# Altium footprint library Generic-Footprint-Library.PcbLib: 47 footprints (part 3 of 3)
Each footprint in its own frame and in the unit in brackets; x right, y up, seen from the top. Pads: shape width x height; smd on the part's side, far side on the other; paste and mask are expansions set on the pad; w line width, h text height; cw(c..) or ccw(c..) is an arc to the next point about the centre after c.
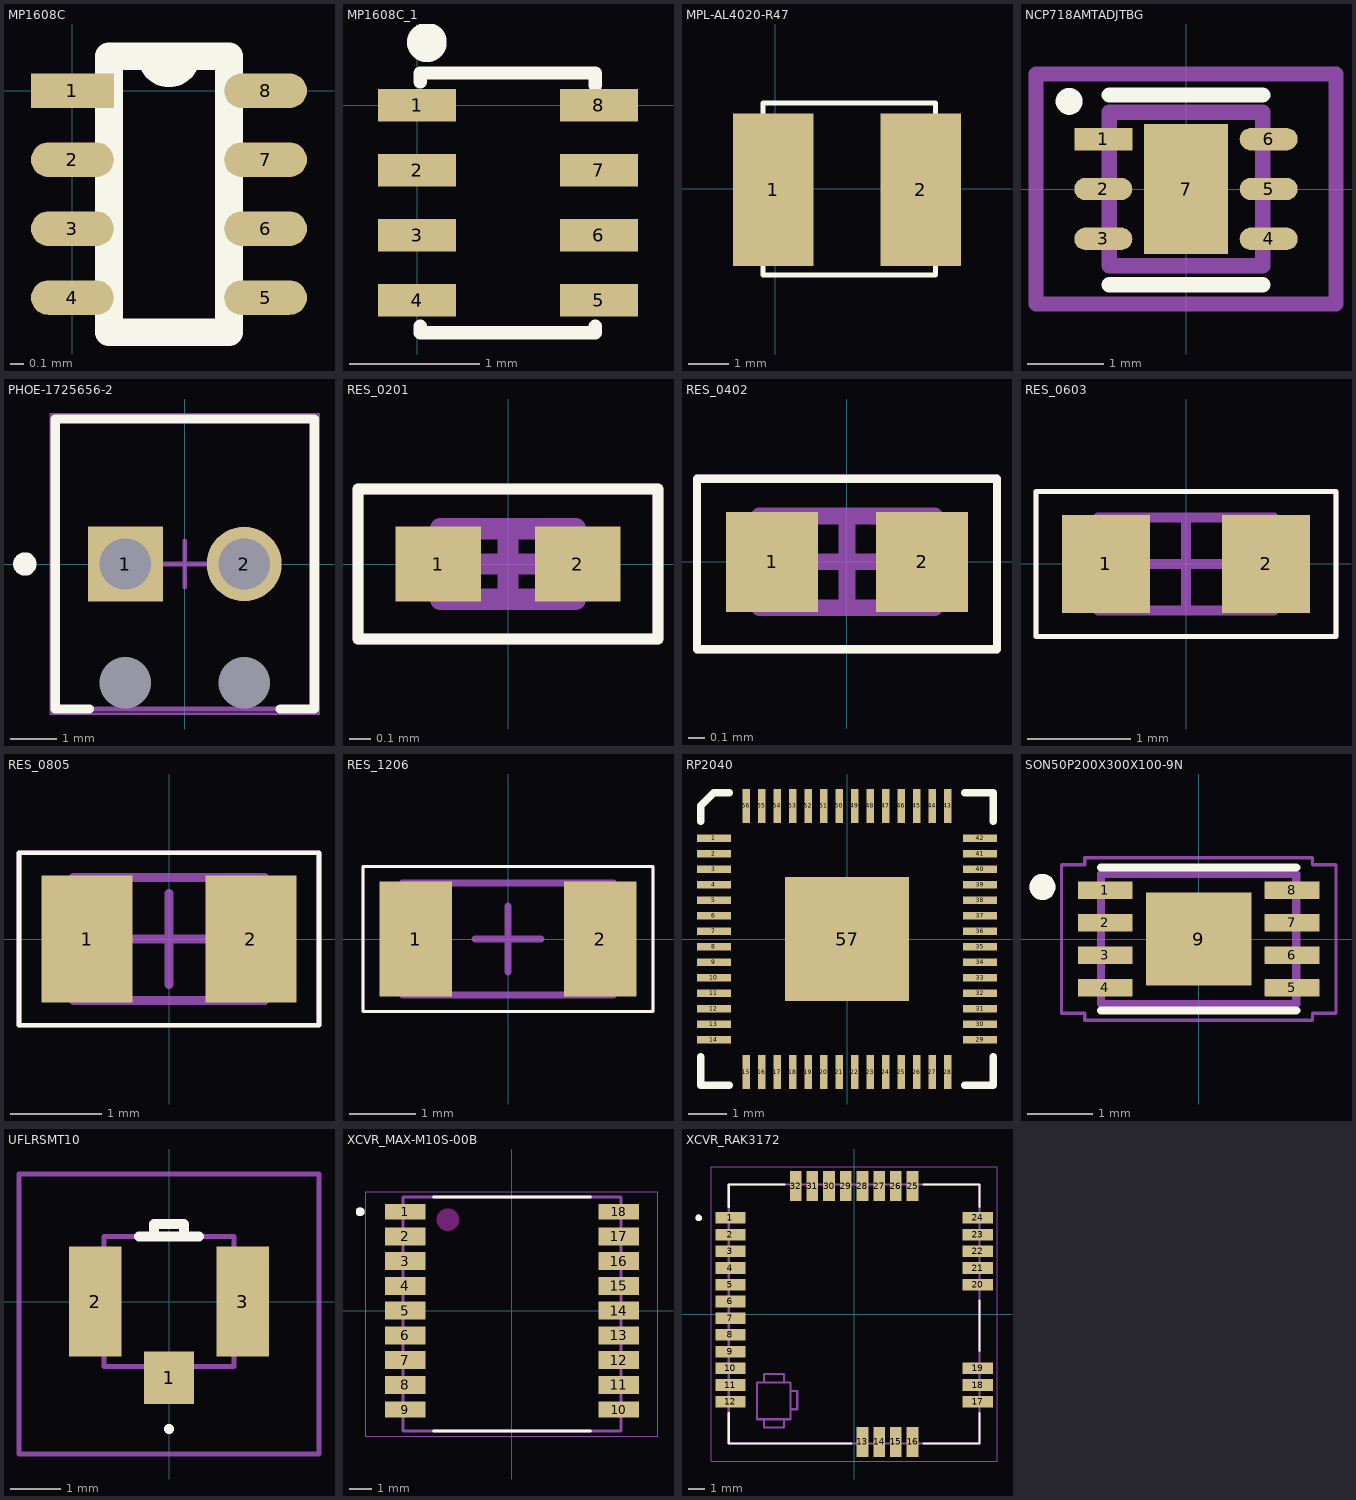
[diagram p2: the footprints below, top view; thin cyan lines are the x and y axes]

## MP1608C [mm]
pads (8):
  rect 0.6x0.25 smd: 1(0,0)
  oval 0.6x0.25 smd: 2(0,-0.5) 3(0,-1) 4(0,-1.5) 5(1.4,-1.5) 6(1.4,-1) 7(1.4,-0.5) 8(1.4,0)
Top Overlay:
  lines w0.2: 0.265,-1.75 0.265,0.25 0.825,0.25 cw(c0.7,0.25) 0.575,0.25 1.135,0.25 1.135,-1.75 0.265,-1.75

## MP1608C_1 [mm]
pads (8):
  rect 0.6x0.25 smd mask+0.051: 1(0,0) 2(0,-0.5) 3(0,-1) 4(0,-1.5) 5(1.4,-1.5) 6(1.4,-1) 7(1.4,-0.5) 8(1.4,0)
Top Overlay:
  circle w0.254: c0.076,0.483 r0.025
  lines w0.102: 0.025,-1.702 0.025,-1.753 1.372,-1.753 1.372,-1.702 ; 0.025,0.178 0.025,0.247 1.372,0.247 1.372,0.152

## MPL-AL4020-R47 [mm]
pads (2):
  rect 2x3.8 smd mask+0.051: 1(-0.051,-0.025) 2(3.632,-0.025)
Top Overlay:
  lines w0.127: -0.305,-2.159 3.995,-2.159 3.995,2.141 -0.305,2.141 -0.305,-2.159

## NCP718AMTADJTBG [mm]
pads (7):
  rect 0.756x0.292 smd paste+0 mask+0: 1(-1.078,0.65)
  rrect100% 0.756x0.292 smd paste+0 mask+0: 2(-1.078,0) 3(-1.078,-0.65) 4(1.078,-0.65) 5(1.078,0) 6(1.078,0.65)
  rect 1.1x1.7 smd paste-1000 mask+0: 7(0,0)
Top Overlay:
  circle w0.25: c-1.524,1.143 r0.05
  lines w0.2: -1,-1.25 1,-1.25 ; -1,1.225 1,1.225
Top Paste:
  rectangle: -0.308,-0.608 0.308,0.608
Top Assembly:
  lines w0.2: -1.956,-1.5 1.956,-1.5 1.956,1.5 -1.956,1.5 -1.956,-1.5 ; -1,-1 -1,1 1,1 1,-1 -1,-1
Top Courtyard:
  lines w0.2: -1.956,-1.5 1.956,-1.5 1.956,1.5 -1.956,1.5 -1.956,-1.5
Top Component Center:
  lines w0.1: -0.5,0 0.5,0 ; 0,-0.5 0,0.5
3D body "IC_onsemi_NCP711BMTADJTBG_eec.STEP": height 0.25, standoff 0, extent -1.956,-1.5 1.956,1.5

## PHOE-1725656-2 [mm] "Connector, 2-Leads, Body 6.2x5.4mm, Pitch 2.54mm"
height 8.5
pads (4):
  rect 1.6x1.6 hole 1.1: 1(-1.27,0)
  round 1.6 hole 1.1: 2(1.27,0)
  round 0 hole 1.1 unplated: MH1(-1.27,-2.54) MH2(1.27,-2.54)
Top Overlay:
  circle w0.25: c-3.42,0 r0.125
  lines w0.2: -2.038,-3.1 -2.77,-3.1 -2.77,3.1 2.77,3.1 2.77,-3.1 2.038,-3.1
Mechanical 13:
  lines w0.1: -2.77,-3.1 -2.77,3.1 2.77,3.1 2.77,-3.1 -2.77,-3.1
Mechanical 15:
  lines w0.05: -2.87,-3.2 2.87,-3.2 2.87,3.2 -2.87,3.2 -2.87,-3.2
  lines w0.1: -0.5,0 0.5,0 ; 0,-0.5 0,0.5
3D body "1725656.stp": height 9, standoff -3, extent -2.77,-3.1 2.77,3.1

## RES_0201 [mm]
height 0.26
pads (2):
  rect 0.4x0.35 smd mask+0.05: 1(-0.325,0) 2(0.325,0)
Top Overlay:
  lines w0.05: -0.7,-0.35 -0.7,0.35 ; -0.7,-0.35 0.7,-0.35 ; -0.7,-0.35 -0.7,0.35 ; -0.7,-0.35 0.7,-0.35 ; -0.7,0.35 0.7,0.35 ; -0.7,0.35 0.7,0.35 ; 0.7,-0.35 0.7,0.35 ; 0.7,-0.35 0.7,0.35
Top Assembly:
  lines w0.1: -0.315,-0.165 -0.315,0.165 0.315,0.165 0.315,-0.165 -0.315,-0.165
Top Courtyard:
  lines w0.05: -0.7,-0.35 -0.7,0.35 ; -0.7,-0.35 0.7,-0.35 ; -0.7,-0.35 0.7,-0.35 ; -0.7,-0.35 -0.7,0.35 ; -0.7,0.35 0.7,0.35 ; -0.7,0.35 0.7,0.35 ; 0.7,-0.35 0.7,0.35 ; 0.7,-0.35 0.7,0.35
Top Component Center:
  lines w0.1: -0.165,0 0.165,0 ; 0,-0.165 0,0.165
3D body "RES_0201_new.step": height 0.26, standoff 0, extent -0.315,-0.165 0.315,0.165

## RES_0402 [mm]
height 0.4
pads (2):
  rect 0.55x0.6 smd mask+0.05: 1(-0.45,0) 2(0.45,0)
Top Overlay:
  lines w0.05: -0.9,-0.525 -0.9,0.5 0.9,0.5 0.9,-0.525 -0.9,-0.525
Top Assembly:
  lines w0.1: -0.525,-0.275 0.525,-0.275 0.525,0.275 -0.525,0.275 -0.525,-0.275
Top Courtyard:
  lines w0.05: -0.9,-0.525 0.9,-0.525 0.9,0.5 -0.9,0.5 -0.9,-0.525
Top Component Center:
  lines w0.1: -0.275,0 0.275,0 ; 0,-0.275 0,0.275
3D body "RES_0402.step": height 0.4, standoff 0, extent -0.525,-0.275 0.525,0.275

## RES_0603 [mm]
height 0.55
pads (2):
  rect 0.85x0.95 smd mask+0.05: 1(-0.775,0) 2(0.775,0)
Top Overlay:
  lines w0.05: -1.45,-0.7 1.45,-0.7 1.45,0.7 -1.45,0.7 -1.45,-0.7
Top Assembly:
  lines w0.1: -0.85,-0.45 0.85,-0.45 0.85,0.45 -0.85,0.45 -0.85,-0.45
Top Courtyard:
  lines w0.05: -1.45,-0.7 1.45,-0.7 1.45,0.7 -1.45,0.7 -1.45,-0.7
Top Component Center:
  lines w0.1: -0.45,0 0.45,0 ; 0,-0.45 0,0.45
3D body "RES_0603.step": height 0.55, standoff 0, extent -0.85,-0.45 0.85,0.45

## RES_0805 [mm]
height 0.6
pads (2):
  rect 1x1.4 smd mask+0.05: 1(-0.9,0) 2(0.9,0)
Top Overlay:
  lines w0.05: -1.65,-0.95 1.65,-0.95 1.65,0.95 -1.65,0.95 -1.65,-0.95
Top Assembly:
  lines w0.1: -1.05,-0.675 1.05,-0.675 1.05,0.675 -1.05,0.675 -1.05,-0.675
Top Courtyard:
  lines w0.05: -1.65,-0.95 1.65,-0.95 1.65,0.95 -1.65,0.95 -1.65,-0.95
Top Component Center:
  lines w0.1: -0.5,0 0.5,0 ; 0,-0.5 0,0.5
3D body "RES_0805.step": height 0.6, standoff 0, extent -1.05,-0.675 1.05,0.675

## RES_1206 [mm]
height 0.65
pads (2):
  rect 1.1x1.75 smd mask+0.05: 1(-1.4,0) 2(1.4,0)
Top Overlay:
  lines w0.05: -2.2,-1.1 -2.2,1.1 2.2,1.1 2.2,-1.1 -2.2,-1.1
Top Assembly:
  lines w0.1: -1.6,-0.85 -1.6,0.85 1.6,0.85 1.6,-0.85 -1.6,-0.85
Top Courtyard:
  lines w0.05: -2.2,-1.1 -2.2,1.1 2.2,1.1 2.2,-1.1 -2.2,-1.1
Top Component Center:
  lines w0.1: -0.5,0 0.5,0 ; 0,-0.5 0,0.5
3D body "RES_1206_FIX.step": height 0.65, standoff 0, extent -1.6,-0.85 1.6,0.85

## RP2040 [mm]
pads (57):
  rect 0.875x0.2 smd mask+0.05: 1(-3.437,2.6) 2(-3.437,2.2) 3(-3.437,1.8) 4(-3.437,1.4) 5(-3.437,1) 6(-3.437,0.6) 7(-3.437,0.2) 8(-3.437,-0.2) 9(-3.437,-0.6) 10(-3.437,-1) 11(-3.437,-1.4) 12(-3.437,-1.8) 13(-3.437,-2.2) 14(-3.437,-2.6) 29(3.437,-2.6) 30(3.437,-2.2) 31(3.437,-1.8) 32(3.437,-1.4) 33(3.437,-1) 34(3.437,-0.6) 35(3.437,-0.2) 36(3.437,0.2) 37(3.437,0.6) 38(3.437,1) 39(3.437,1.4) 40(3.437,1.8) 41(3.437,2.2) 42(3.437,2.6)
  rect 0.2x0.875 smd mask+0.05: 15(-2.6,-3.437) 16(-2.2,-3.437) 17(-1.8,-3.437) 18(-1.4,-3.437) 19(-1,-3.437) 20(-0.6,-3.437) 21(-0.2,-3.437) 22(0.2,-3.437) 23(0.6,-3.437) 24(1,-3.437) 25(1.4,-3.437) 26(1.8,-3.437) 27(2.2,-3.437) 28(2.6,-3.437) 43(2.6,3.437) 44(2.2,3.437) 45(1.8,3.437) 46(1.4,3.437) 47(1,3.437) 48(0.6,3.437) 49(0.2,3.437) 50(-0.2,3.437) 51(-0.6,3.437) 52(-1,3.437) 53(-1.4,3.437) 54(-1.8,3.437) 55(-2.2,3.437) 56(-2.6,3.437)
  rect 3.2x3.2 smd mask+0.05: 57(0,0)
Top Overlay:
  lines w0.2: -3.775,-3.048 -3.775,-3.775 -3.048,-3.775 ; -3.775,3.048 -3.775,3.437 -3.437,3.775 ; -3.437,3.775 -3.048,3.775 ; 3.048,-3.775 3.775,-3.775 3.775,-3.048 ; 3.048,3.775 3.775,3.775 3.775,3.048
3D body "QFN56_7X7_RPI.step": height 0.89, standoff 0, extent -3.505,-3.505 3.505,3.505
3D body "QFN56_7X7_RPI.step": height 0.89, standoff 0, extent -3.505,-3.505 3.505,3.505

## SON50P200X300X100-9N [mm]
pads (9):
  rrect7% 0.84x0.27 smd: 1(-1.435,0.75) 2(-1.435,0.25) 3(-1.435,-0.25) 4(-1.435,-0.75) 5(1.435,-0.75) 6(1.435,-0.25) 7(1.435,0.25) 8(1.435,0.75)
  rect 1.625x1.425 smd paste-2: 9(0,0)
Top Overlay:
  circle w0.2: c-2.4,0.8 r0.1
  lines w0.127: -1.5,-1.099 1.5,-1.099 ; -1.5,1.099 1.5,1.099
Top Paste:
  region: -0.075,-0.49 -0.665,-0.49 -0.665,0.49 -0.075,0.49
  region: 0.665,-0.49 0.075,-0.49 0.075,0.49 0.665,0.49
Mechanical 13:
  circle w0.2: c-2.4,0.8 r0.1
  lines w0.127: -1.5,-1 -1.5,1 1.5,1 1.5,-1 -1.5,-1
Mechanical 15:
  lines w0.05: -2.11,-1.14 -1.75,-1.14 -1.75,-1.25 1.75,-1.25 1.75,-1.14 2.11,-1.14 2.11,1.14 1.75,1.14 1.75,1.25 -1.75,1.25 -1.75,1.14 -2.11,1.14 -2.11,-1.14
3D body "step_temp.STEP": height 1, standoff 0, extent -1.5,-1 1.5,1

## UFLRSMT10 [mm]
pads (3):
  rect 1x1.05 smd: 1(0,-1.525)
  rect 1.05x2.2 smd: 2(-1.475,0) 3(1.475,0)
Top Overlay:
  lines w0.1: 0,-2.6 cw(c0,-2.55) 0,-2.5 cw(c0,-2.55) 0,-2.6
  lines w0.2: -0.6,1.3 0.6,1.3 ; -0.3,1.3 -0.3,1.55 0.3,1.55 0.3,1.3
Mechanical 15:
  lines w0.1: -0.3,1.3 -0.3,1.55 0.3,1.55 0.3,1.3 ; -1.3,-1.3 -1.3,1.3 1.3,1.3 1.3,-1.3 -1.3,-1.3
Mechanical 20:
  lines w0.1: -3,-3.05 -3,2.55 3,2.55 3,-3.05 -3,-3.05
3D body "U.FL-R-SMT_10_.stp": height 1.25, standoff 0, extent -1.5,-1.55 1.5,1.55

## XCVR_MAX-M10S-00B [mm]
height 2.7
pads (18):
  rect 1.8x0.7 smd paste-2: 1(-4.75,4.4) 9(-4.75,-4.4) 10(4.75,-4.4) 18(4.75,4.4)
  rect 1.8x0.8 smd paste-2: 2(-4.75,3.3) 3(-4.75,2.2) 4(-4.75,1.1) 5(-4.75,0) 6(-4.75,-1.1) 7(-4.75,-2.2) 8(-4.75,-3.3) 11(4.75,-3.3) 12(4.75,-2.2) 13(4.75,-1.1) 14(4.75,0) 15(4.75,1.1) 16(4.75,2.2) 17(4.75,3.3)
Top Overlay:
  circle w0.2: c-6.75,4.4 r0.1
  lines w0.127: -3.49,-5.35 3.49,-5.35 ; -3.49,5.05 3.49,5.05
Top Paste:
  region: 6.25,-4.75 4.85,-4.75 4.85,-4.65 3.95,-4.65 3.95,-4.15 4.85,-4.15 4.85,-4.05 6.25,-4.05
  region: -4.85,-4.15 -3.95,-4.15 -3.95,-4.65 -4.85,-4.65 -4.85,-4.75 -6.25,-4.75 -6.25,-4.05 -4.85,-4.05
  region: 6.25,-3.7 4.85,-3.7 4.85,-3.6 3.95,-3.6 3.95,-3 4.85,-3 4.85,-2.9 6.25,-2.9
  region: 6.25,-2.6 4.85,-2.6 4.85,-2.5 3.95,-2.5 3.95,-1.9 4.85,-1.9 4.85,-1.8 6.25,-1.8
  region: 6.25,-1.5 4.85,-1.5 4.85,-1.4 3.95,-1.4 3.95,-0.8 4.85,-0.8 4.85,-0.7 6.25,-0.7
  region: 6.25,0.7 4.85,0.7 4.85,0.8 3.95,0.8 3.95,1.4 4.85,1.4 4.85,1.5 6.25,1.5
  region: 6.25,1.8 4.85,1.8 4.85,1.9 3.95,1.9 3.95,2.5 4.85,2.5 4.85,2.6 6.25,2.6
  region: 6.25,2.9 4.85,2.9 4.85,3 3.95,3 3.95,3.6 4.85,3.6 4.85,3.7 6.25,3.7
  region: 6.25,-0.4 4.85,-0.4 4.85,-0.3 3.95,-0.3 3.95,0.3 4.85,0.3 4.85,0.4 6.25,0.4
  region: -4.85,-3 -3.95,-3 -3.95,-3.6 -4.85,-3.6 -4.85,-3.7 -6.25,-3.7 -6.25,-2.9 -4.85,-2.9
  region: -4.85,-1.9 -3.95,-1.9 -3.95,-2.5 -4.85,-2.5 -4.85,-2.6 -6.25,-2.6 -6.25,-1.8 -4.85,-1.8
  region: -4.85,-0.8 -3.95,-0.8 -3.95,-1.4 -4.85,-1.4 -4.85,-1.5 -6.25,-1.5 -6.25,-0.7 -4.85,-0.7
  region: -4.85,1.4 -3.95,1.4 -3.95,0.8 -4.85,0.8 -4.85,0.7 -6.25,0.7 -6.25,1.5 -4.85,1.5
  region: -4.85,2.5 -3.95,2.5 -3.95,1.9 -4.85,1.9 -4.85,1.8 -6.25,1.8 -6.25,2.6 -4.85,2.6
  region: -4.85,3.6 -3.95,3.6 -3.95,3 -4.85,3 -4.85,2.9 -6.25,2.9 -6.25,3.7 -4.85,3.7
  region: 6.25,4.05 4.85,4.05 4.85,4.15 3.95,4.15 3.95,4.65 4.85,4.65 4.85,4.75 6.25,4.75
  region: -4.85,4.65 -3.95,4.65 -3.95,4.15 -4.85,4.15 -4.85,4.05 -6.25,4.05 -6.25,4.75 -4.85,4.75
  region: -4.85,0.3 -3.95,0.3 -3.95,-0.3 -4.85,-0.3 -4.85,-0.4 -6.25,-0.4 -6.25,0.4 -4.85,0.4
Keep-Out Layer:
  circle w0.5: c-2.85,4.05 r0.25
Mechanical 13:
  circle w0.2: c-6.75,4.4 r0.1
  lines w0.127: -4.85,-5.35 -4.85,5.05 4.85,5.05 4.85,-5.35 -4.85,-5.35
Mechanical 15:
  lines w0.05: -6.5,-5.6 -6.5,5.3 6.5,5.3 6.5,-5.6 -6.5,-5.6
3D body "step_temp.STEP": height 2.7, standoff 0, extent -4.85,-5.35 4.85,5.05

## XCVR_RAK3172 [mm]
height 2.6
pads (32):
  rect 1.8x0.7 smd paste+0 mask+0.102: 1(-7.4,5.75) 2(-7.4,4.75) 3(-7.4,3.75) 4(-7.4,2.75) 5(-7.4,1.75) 6(-7.4,0.75) 7(-7.4,-0.25) 8(-7.4,-1.25) 9(-7.4,-2.25) 10(-7.4,-3.25) 11(-7.4,-4.25) 12(-7.4,-5.25) 17(7.4,-5.25) 18(7.4,-4.25) 19(7.4,-3.25) 20(7.4,1.75) 21(7.4,2.75) 22(7.4,3.75) 23(7.4,4.75) 24(7.4,5.75)
  rect 0.7x1.8 smd paste+0 mask+0.102: 13(0.5,-7.65) 14(1.5,-7.65) 15(2.5,-7.65) 16(3.5,-7.65) 25(3.5,7.65) 26(2.5,7.65) 27(1.5,7.65) 28(0.5,7.65) 29(-0.5,7.65) 30(-1.5,7.65) 31(-2.5,7.65) 32(-3.5,7.65)
Top Overlay:
  circle w0.2: c-9.3,5.75 r0.1
  lines w0.127: -7.5,-5.92 -7.5,-7.75 -0.17,-7.75 ; -7.5,6.42 -7.5,7.75 -4.17,7.75 ; 4.17,-7.75 7.5,-7.75 7.5,-5.92 ; 4.17,7.75 7.5,7.75 7.5,6.42 ; 7.5,-2.2 7.5,0.8
Mechanical 13:
  circle w0.2: c-9.3,5.75 r0.1
  lines w0.127: -5.4,-6.3 -4.2,-6.3 ; -5.4,-6.3 -5.8,-6.3 -5.8,-4.1 -5.4,-4.1 ; -5.4,-6.3 -5.4,-6.8 -4.2,-6.8 -4.2,-6.3 ; -5.4,-4.1 -4.2,-4.1 ; -5.4,-4.1 -5.4,-3.6 -4.2,-3.6 -4.2,-4.1 ; -4.2,-6.3 -3.8,-6.3 -3.8,-5.7 ; -4.2,-4.1 -3.8,-4.1 -3.8,-4.6 ; -3.8,-5.7 -3.8,-4.6 ; -3.8,-5.7 -3.4,-5.7 -3.4,-4.6 -3.8,-4.6 ; -7.5,-7.75 -7.5,7.75 7.5,7.75 7.5,-7.75 -7.5,-7.75
Mechanical 15:
  lines w0.05: -8.55,-8.8 -8.55,8.8 8.55,8.8 8.55,-8.8 -8.55,-8.8
3D body "step_temp.STEP": height 2.61, standoff 0.01, extent -7.5,-7.75 7.5,7.75